# Altium footprint library 4-SOP.PcbLib: 1 footprints
Each footprint in its own frame and in the unit in brackets; x right, y up, seen from the top. Pads: shape width x height; smd on the part's side, far side on the other; paste and mask are expansions set on the pad; w line width, h text height; cw(c..) or ccw(c..) is an arc to the next point about the centre after c.
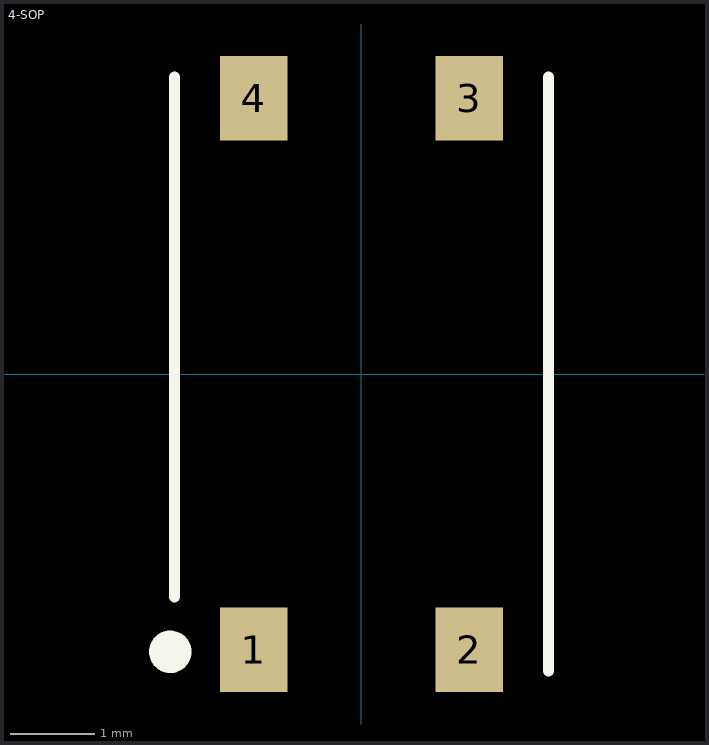
[diagram p0: the footprint, top view; thin cyan lines are the x and y axes]

## 4-SOP [mm]
height 1.75
pads (4):
  rect 0.8x1 smd: 1(-1.27,-3.25) 2(1.27,-3.25) 3(1.27,3.25) 4(-1.27,3.25)
Top Overlay:
  circle w0.25: c-2.254,-3.274 r0.125
  lines w0.127: -2.203,-2.629 -2.203,3.5 ; 2.203,-3.5 2.203,3.5
3D body "User Library-4-SOP.STEP": height 2.1, standoff 0, extent -2.15,-3.4 2.15,3.4